# Altium footprint library PCB - CAPACITOR - ALUMINIUM - CAP TH ALUM ELEC D16.00mm S7.50mm H25.00mm.PCBLIB: 1 footprints
Each footprint in its own frame and in the unit in brackets; x right, y up, seen from the top. Pads: shape width x height; smd on the part's side, far side on the other; paste and mask are expansions set on the pad; w line width, h text height; cw(c..) or ccw(c..) is an arc to the next point about the centre after c.
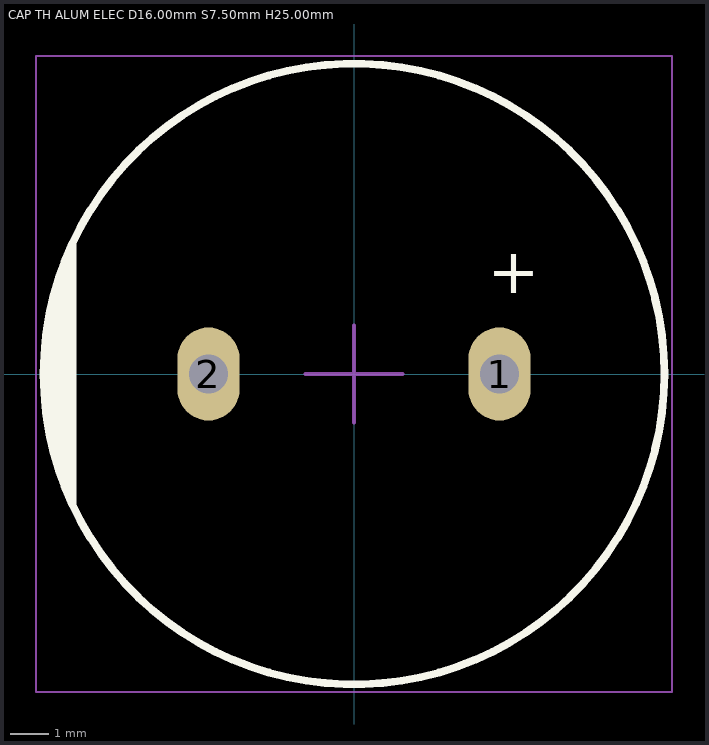
[diagram p0: the footprint, top view; thin cyan lines are the x and y axes]

## CAP TH ALUM ELEC D16.00mm S7.50mm H25.00mm [mm] "16mm Diameter 7.5mm Lead Spacing Aluminum Electrolytic Capacitors Radial, Can"
height 25
pads (2):
  oval 1.6x2.4 hole 1: 1(3.75,0) 2(-3.75,0)
Top Overlay:
  circle w0.2: c0,0 r8
  region: -7.25,-3.381 -7.435,-2.985 -7.716,-2.158 -7.905,-1.305 -8,-0.437 -8,0.437 -7.905,1.305 -7.716,2.158 -7.435,2.985 -7.25,3.381
  lines w0.2: -7.25,-3.381 cw(c0,0) -7.25,3.381 -7.25,-3.381
  text "+" at 3.45,1.7 h2
Mechanical 13:
  circle w0.1: c0,0 r8
  lines w0.1: -7.25,-3.381 -7.25,3.381
Mechanical 15:
  lines w0.05: -8.2,-8.2 8.2,-8.2 8.2,8.2 -8.2,8.2 -8.2,-8.2
  lines w0.1: -1.25,0 0,0 ; 0,-1.25 0,0 ; 0,1.25 0,0 ; 1.25,0 0,0
3D body "Cap TH D16.00mm H25.00mm L7.50mm.step": height 25, standoff -2.5, extent -8.01,-7.999 8,7.999